# EAGLE library part AND (library Digital)
Behavioral AND gate
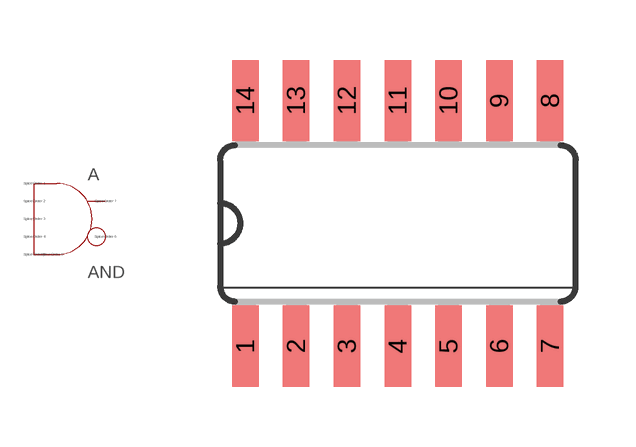
[diagram p0: symbol with the pads of SO14; footprint SO14]

Designator prefix A

## AND  [SO14]
1  A  pas
2  B  pas
3  C  pas
4  D  pas
5  E  pas
6  !Q  pas
7  COM  pas
8  Q  pas

## Footprint SO14 (pad centres in mm)
Small Outline package 150 mil
smd 0.66 x 2.032: 1 -3.81,-3.073; 2 -2.54,-3.073; 3 -1.27,-3.073; 4 0,-3.073; 5 1.27,-3.073; 6 2.54,-3.073; 7 3.81,-3.073; 8 3.81,3.073; 9 2.54,3.073; 10 1.27,3.073; 11 0,3.073; 12 -1.27,3.073; 13 -2.54,3.073; 14 -3.81,3.073